# Altium schematic symbol library XBee_XBee-PRO S2C ZigBee.Schlib: 1 symbol
Pins are listed as number, name and electrical type; pins without a type are passive.

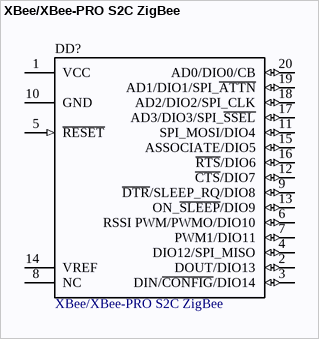
[diagram p0: symbol XBee/XBee-PRO S2C ZigBee]

## XBee/XBee-PRO S2C ZigBee
designator DD?
footprint XBee PRO through-hole
footprint XBee PRO header
pins: 1 VCC (power), 2 DOUT/DIO13 (io) "UART data out", 3 DIN/~{CONFIG}/DIO14 (io) "UART data in", 4 DIO12/SPI_MISO (io) "GPIO/SPI slave out", 5 ~{RESET} (in) "Module reset", 6 RSSI PWM/PWMO/DIO10 (io) "RX signal strength indicator/GPIO", 7 PWM1/DIO11 (io) "GPIO", 8 NC "Do not connect", 9 ~{DTR}/SLEEP_RQ/DIO8 (io) "Pin sleep control line/GPIO", 10 GND (power) "Ground", 11 SPI_MOSI/DIO4 (io) "GPIO/SPI slave in", 12 ~{CTS}/DIO7 (io) "Clear-to-send flow control/GPIO", 13 ON_~{SLEEP}/DIO9 (io) "Device status indicator/GPIO", 14 VREF "Not connected", 15 ASSOCIATE/DIO5 (io) "Associate indicator/GPIO", 16 ~{RTS}/DIO6 (io) "Request to send flow control/GPIO", 17 AD3/DIO3/SPI_~{SSEL} (io) "Analog input/GPIO/SPI slave select", 18 AD2/DIO2/SPI_CLK (io) "Analog input/GPIO/SPI clock", 19 AD1/DIO1/SPI_~{ATTN} (io) "Analog input/GPIO/SPI attention", 20 AD0/DIO0/CB (io) "Analog input/GPIO/ Commissioning    button"